# Altium schematic symbol library 282837-4.SchLib: 1 symbol
Pins are listed as number, name and electrical type; pins without a type are passive.

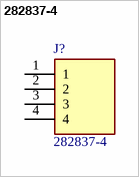
[diagram p0: symbol 282837-4]

## 282837-4
designator J?
Body Features: Product Orientation Vertical | Primary Product Color Green | Configuration Features: Number of Rows 1 | Number of Positions 4 | Wire Entry Location Side | Wire Entry Angle 90 | Contact Features: Contact Mating Area Plating Material Tin | Contact Base Material Brass | Contact Current Rating (Max) 13.5 AMP | Dimensions: Wire Size .05  1.3 MMSQ | Wire Size 30  16 AWG | Electrical Characteristics: Operating Voltage 300 VAC | Housing Features: Housing Material PA 66 | Centerline (Pitch) 5.; Manufacturer_Name: TE Connectivity; Geometry.Height: 10.3mm; Mouser Part Number: 571-2828374; Mouser Price/Stock: https://www.mouser.co.uk/ProductDetail/TE-Connectivity/282837-4?qs=A%252Bip%252BNCYi6MiQzbqNH27Ug%3D%3D; Manufacturer_Part_Number: 282837-4; Datasheet Link: https://www.te.com/commerce/DocumentDelivery/DDEController?Action=srchrtrv&DocNm=1-1773458-1_EURO_STYLE_QRG&DocType=Data%20Sheet&DocLang=English&PartCntxt=282837-4&DocFormat=pdf
footprint 2828374
pins: 1, 2, 3, 4